# EAGLE library part 74V2T126STR (library ST_Microelctronics_By_element14_Batch_1)
DUAL BUS BUFFER (3-STATE)
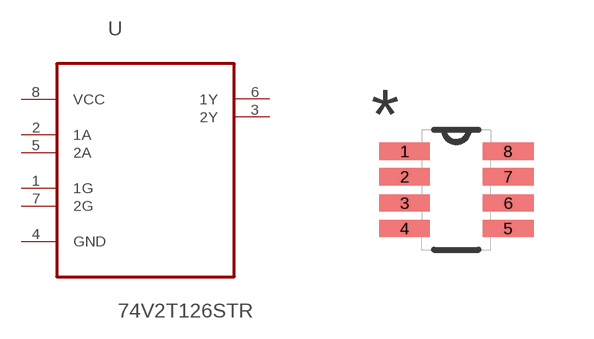
[diagram p1: symbol with the pads of SOT65P280X145-8N; footprint SOT65P280X145-8N]

Designator prefix U

## 74V2T126STR (MPN: 74V2T126STR; OC_FARNELL: 1288482; OC_NEWARK: 57P6047; PACKAGE: SOT-23-8; SUPPLIER: STMICROELECTRONICS)  [SOT65P280X145-8N]
1  1G  in
2  1A  in
3  2Y  out
4  GND  pas
5  2A  in
6  1Y  out
7  2G  in
8  VCC  pwr

## Footprint SOT65P280X145-8N (pad centres in mm)
smd 1.27 x 0.432: 1 -1.295,0.965; 2 -1.295,0.33; 3 -1.295,-0.33; 4 -1.295,-0.965; 5 1.295,-0.965; 6 1.295,-0.33; 7 1.295,0.33; 8 1.295,0.965